# Altium footprint library ZhiXingDoubleWing.PcbLib: 23 footprints (part 2 of 2)
Each footprint in its own frame and in the unit in brackets; x right, y up, seen from the top. Pads: shape width x height; smd on the part's side, far side on the other; paste and mask are expansions set on the pad; w line width, h text height; cw(c..) or ccw(c..) is an arc to the next point about the centre after c.
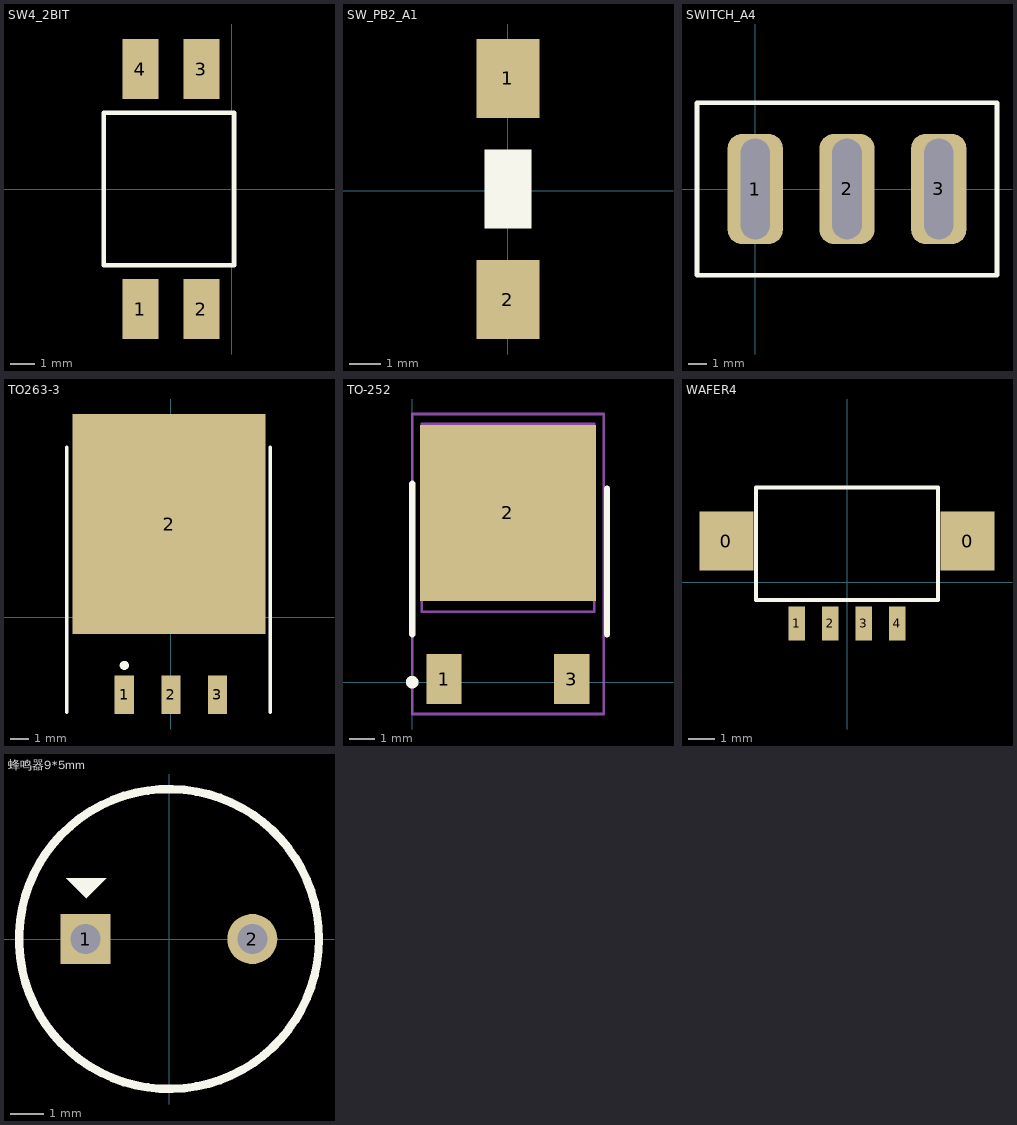
[diagram p1: the footprints below, top view; thin cyan lines are the x and y axes]

## SW4_2BIT [mm] "贴片拨码开关"
height 1.75
pads (4):
  rect 1.5x2.5 smd: 1(-3.81,-5) 2(-1.27,-5) 3(-1.27,5) 4(-3.81,5)
Top Overlay:
  lines w0.2: -5.334,-3.175 0.1,-3.175 0.1,3.175 -5.334,3.175 -5.334,-0.762 -5.334,-3.175
3D body: height 2.15, standoff 2.05, extent -2.032,-2.032 -0.508,-0.508
3D body: height 2.15, standoff 2.05, extent -4.572,0.889 -3.048,2.413
3D body: height 2.05, standoff 2, extent -2.032,-2.032 -0.508,2.413
3D body: height 2.05, standoff 2, extent -4.572,-2.032 -3.048,2.413
3D body: height 2, standoff 0, extent -5.207,-3.429 0,3.429

## SW_PB2_A1 [mm]
height 15
pads (2):
  rect 2x2.5 smd: 1(0,3.556) 2(0,-3.444)
Top Overlay:
  region: -0.747,1.309 -0.747,-1.191 0.753,-1.191 0.753,1.309
3D body "SMD按键.STEP": height 2.5, standoff 0, extent -1.933,-3.945 1.917,3.945

## SWITCH_A4 [mm]
height 2.54
pads (3):
  rrect50% 3x6 hole 1.6 slot 5.5 at 90 deg: 1(0,0) 2(5,0) 3(10,0)
Top Overlay:
  lines w0.254: -3.175,-4.699 -3.175,4.699 13.175,4.699 13.175,-4.699 -3.175,-4.699

## TO263-3 [mm] "LM2940/LM1086"
height 4.65
pads (4):
  rect 1.05x2.1 smd: 1(-2.54,-4.225) 2(0,-4.225) 3(2.54,-4.225)
  rect 10.5x12 smd: 2(-0.104,5.08)
Top Overlay:
  circle w0.25: c-2.54,-2.625 r0.125
  lines w0.2: -5.677,-5.175 -5.677,9.275 ; 5.423,-5.175 5.423,9.275
3D body: height 0.8, standoff 0, extent 2.032,-4.699 3.048,-1.778
3D body: height 0.8, standoff 0, extent -0.508,-4.699 0.508,-1.778
3D body: height 0.8, standoff 0, extent -3.048,-4.699 -2.032,-1.778
3D body: height 1.6, standoff 0, extent -5.461,-1.778 5.207,9.271

## TO-252 [mm]
height 15
pads (3):
  rect 1.4x2 smd: 1(1.27,0.127) 3(6.35,0.127)
  rect 7x7 smd: 2(3.81,6.731)
Top Overlay:
  circle w0.25: c0,0.002 r0.125
  lines w0.254: 0,1.905 0,7.896 ; 7.747,1.905 7.747,7.696
Mechanical 13:
  lines w0.1: 0.381,2.794 0.381,10.287 7.239,10.287 7.239,2.794 0.381,2.794
Mechanical 15:
  lines w0.1: 3.31,6.985 4.31,6.985 ; 3.81,6.485 3.81,7.485 ; 0,-1.265 0,10.668 7.62,10.668 7.62,-1.265 0,-1.265
3D body "User Library-DPAK-1.STEP": height 2.39, standoff -0.02, extent 0.54,-0.381 7.08,9.557

## WAFER4 [mm]
height 15
pads (6):
  rect 2x2.2 smd: 0(-4.5,1.537) 0(4.5,1.538)
  rect 0.6x1.27 smd: 1(-1.875,-1.537) 2(-0.625,-1.538) 3(0.625,-1.538) 4(1.875,-1.538)
Top Overlay:
  lines w0.152: -3.4,-0.662 3.4,-0.662 3.4,3.538 -3.4,3.537 -3.4,-0.662

## 蜂鸣器9*5mm [mm]
height 15
pads (2):
  rect 1.5x1.5 hole 0.9: 1(-2.5,0)
  round 1.5 hole 0.9: 2(2.5,0)
Top Overlay:
  circle w0.254: c0,0 r4.5
  region: -2.486,1.222 -1.883,1.826 -3.089,1.826